# EAGLE library part 4P3T (library switches)
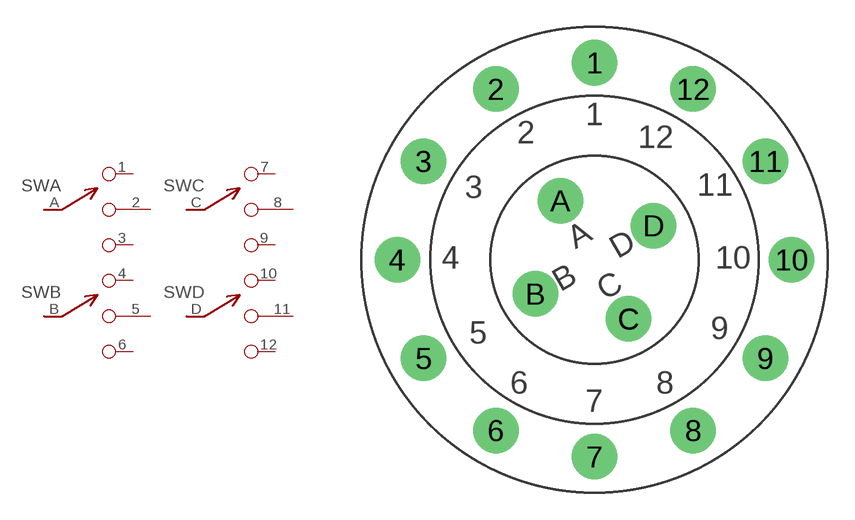
[diagram p3: symbol with the pads of 4P3T; footprint 4P3T]

Designator prefix SW; gates A=SP3T B=SP3T C=SP3T D=SP3T

## 4P3T  [4P3T]
1  A:T1
2  A:T2
3  A:T3
4  B:T1
5  B:T2
6  B:T3
7  C:T1
8  C:T2
9  C:T3
10  D:T1
11  D:T2
12  D:T3
A  A:P
B  B:P
C  C:P
D  D:P

## Footprint 4P3T (pad centres in mm)
drill 1.6 pad 2.54: 1 0,10.999; 2 -5.5,9.526; 3 -9.525,5.5; 4 -10.999,0; 5 -9.525,-5.499; 6 -5.5,-9.525; 7 0,-10.999; 8 5.499,-9.525; 9 9.525,-5.499; 10 10.999,0; 11 9.525,5.499; 12 5.499,9.525; A -1.905,3.3; B -3.3,-1.905; C 1.905,-3.3; D 3.3,1.905